# EAGLE library part NRF52832_10QFN48 (library REF-IN-BLE-NS 4-0)
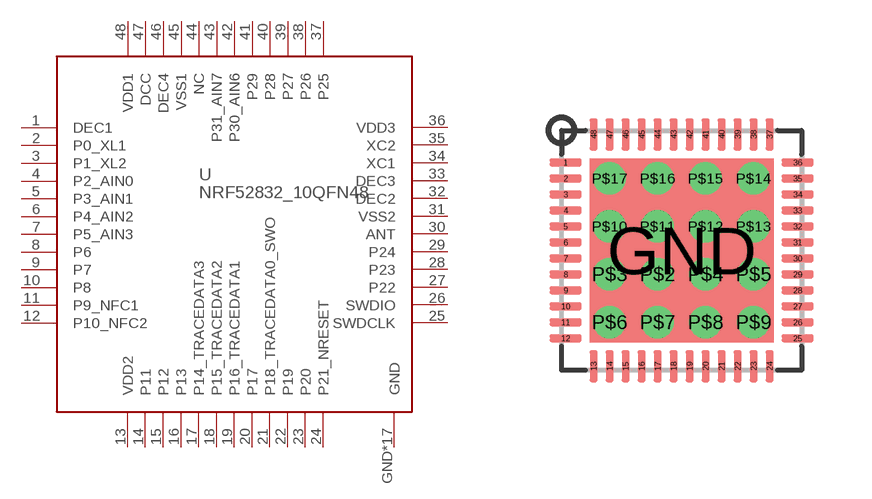
[diagram p1: symbol with the pads of NRF52832_10; footprint NRF52832_10]

Designator prefix -

## NRF52832_10QFN48  [NRF52832_10]
1  DEC1
2  P0_XL1
3  P1_XL2
4  P2_AIN0
5  P3_AIN1
6  P4_AIN2
7  P5_AIN3
8  P6
9  P7
10  P8
11  P9_NFC1
12  P10_NFC2
13  VDD2
14  P11
15  P12
16  P13
17  P14_TRACEDATA3
18  P15_TRACEDATA2
19  P16_TRACEDATA1
20  P17
21  P18_TRACEDATA0_SWO
22  P19
23  P20
24  P21_NRESET
25  SWDCLK
26  SWDIO
27  P22
28  P23
29  P24
30  ANT
31  VSS2
32  DEC2
33  DEC3
34  XC1
35  XC2
36  VDD3
37  P25
38  P26
39  P27
40  P28
41  P29
42  P30_AIN6
43  P31_AIN7
44  NC
45  VSS1
46  DEC4
47  DCC
48  VDD1
GND  GND
P$2  GND
P$3  GND
P$4  GND
P$5  GND
P$6  GND
P$7  GND
P$8  GND
P$9  GND
P$10  GND
P$11  GND
P$12  GND
P$13  GND
P$14  GND
P$15  GND
P$16  GND
P$17  GND

## Footprint NRF52832_10 (pad centres in mm)
smd 0.8 x 0.2: 1 -2.9,2.2; 2 -2.9,1.8; 3 -2.9,1.4; 4 -2.9,1; 5 -2.9,0.6; 6 -2.9,0.2; 7 -2.9,-0.2; 8 -2.9,-0.6; 9 -2.9,-1; 10 -2.9,-1.4; 11 -2.9,-1.8; 12 -2.9,-2.2; 25 2.9,-2.2; 26 2.9,-1.8; 27 2.9,-1.4; 28 2.9,-1; 29 2.9,-0.6; 30 2.9,-0.2; 31 2.9,0.2; 32 2.9,0.6; 33 2.9,1; 34 2.9,1.4; 35 2.9,1.8; 36 2.9,2.2
smd 0.2 x 0.8: 13 -2.2,-2.9; 14 -1.8,-2.9; 15 -1.4,-2.9; 16 -1,-2.9; 17 -0.6,-2.9; 18 -0.2,-2.9; 19 0.2,-2.9; 20 0.6,-2.9; 21 1,-2.9; 22 1.4,-2.9; 23 1.8,-2.9; 24 2.2,-2.9; 37 2.2,2.9; 38 1.8,2.9; 39 1.4,2.9; 40 1,2.9; 41 0.6,2.9; 42 0.2,2.9; 43 -0.2,2.9; 44 -0.6,2.9; 45 -1,2.9; 46 -1.4,2.9; 47 -1.8,2.9; 48 -2.2,2.9
smd 4.6 x 4.6: GND 0,0
drill 0.3 pad 0.5: P$2 -0.6,-0.6; P$3 -1.8,-0.6; P$4 0.6,-0.6; P$5 1.8,-0.6; P$6 -1.8,-1.8; P$7 -0.6,-1.8; P$8 0.6,-1.8; P$9 1.8,-1.8; P$10 -1.8,0.6; P$11 -0.6,0.6; P$12 0.6,0.6; P$13 1.8,0.6; P$14 1.8,1.8; P$15 0.6,1.8; P$16 -0.6,1.8; P$17 -1.8,1.8